# Altium schematic symbol library BH1750FVI.SchLib: 2 symbols
Pins are listed as number, name and electrical type; pins without a type are passive.

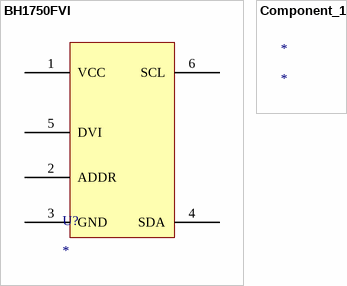
[diagram p0: symbols BH1750FVI to Component_1]

## BH1750FVI
designator U?
16菴肴焚蟄苓ｾ灘�ｺ蝙狗試ｯ蠅�蜈牙ｼｺ蠎ｦ莨諢溷勣�ｼ栗2C BUS/-40邃ミ+85邃�
pins: 1 VCC (power), 2 ADDR, 3 GND, 4 SDA, 5 DVI, 6 SCL

## Component_1
designator *